# Altium schematic symbol library BTS3405G.SchLib: 1 symbol
Pins are listed as number, name and electrical type; pins without a type are passive.

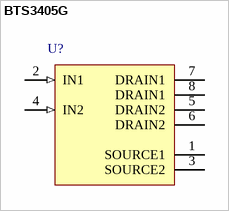
[diagram p0: symbol BTS3405G]

## BTS3405G
designator U?
HITFET Smart Low-Side Power Switch, 42 V VDS, 0.6 A ID, -40 to 150 degC, PG-DSO-8-25, Reel, Green; Manufacturer: Infineon; PartNumber: BTS3405G; Channels: 2; Green: TRUE; ID(nom): 0.35 A; ID(lim) (min): 0.6 A; Ptot (max): 0.78 W; RDS (on)(max): 700 mOhm; ton (max): 38 us; toff (max): 45 us; VDS (max): 42 V; DatasheetVersion: Rev. 1.1; PackageVersion: Nov-07; PackageReference: PG-DSO-8-25; PackageDescription: 8-Pin Plastic (Green) Dual Small Outline Package, 4.9 x 3.9 mm Body, 1.27 mm Pitch; Supplier 1: Digi-Key; Supplier Part Number 1: BTS3405GTR-ND; Supplier 2: Digi-Key; Supplier Part Number 2: BTS3405GCT-ND; Supplier 3: Digi-Key; Supplier Part Number 3: BTS3405GDKR-ND; Supplier 4: Farnell; Supplier Part Number 4: 2215525; Supplier 5: Newark; Supplier Part Number 5: 47W3385; Supplier 6: Mouser; Supplier Part Number 6: 726-BTS3405G; Group: HITFET; Halogen-free: TRUE; Packing: Reel; Mounting Technology: Surface Mount; ComponentLink1Description: Manufacturer URL; ComponentLink1URL: http://www.infineon.com/; ComponentLink2Description: Datasheet; ComponentLink2URL: http://www.infineon.com/dgdl/BTS3405G_DS_11.pdf?folderId=db3a3043163797a6011667aa084c0e01&fileId=db3a30431689f4420116d43d769b0cc0&location=en.Products.Automotive_ICs.Smart_High-_and_Low-Side_Switches.HITFET___TEMPFET__-_Smart_Low-Side_Switches.DATASHEET.BTS3405G_DS_11.pdf; ComponentLink3Description: Package Specification; ComponentLink3URL: http://www.infineon.com/dgdl/BTS3410G_DS_13.pdf?folderId=db3a3043163797a6011667aa084c0e01&fileId=db3a3043271faefd01274d02cd525d4a&location=en.Products.Automotive_ICs.Smart_High-_and_Low-Side_Switches.HITFET___TEMPFET__-_Smart_Low-Side_Switches.DATASHEET.BTS3410G_DS_13.pdf
footprint INF-PG-DSO-8-25_N (SOP, 8-Leads, Body 4.9x3.9mm, Pitch 1.27mm, IPC Medium Density)
footprint INF-PG-DSO-8-25_L (SOP, 8-Leads, Body 4.9x3.9mm, Pitch 1.27mm, IPC High Density)
footprint INF-PG-DSO-8-25_M (SOP, 8-Leads, Body 4.9x3.9mm, Pitch 1.27mm, IPC Low Density)
pins: 1 SOURCE1 (power) "Ground connection for channel 1", 2 IN1 (in) "Input / Fault feedback for channel 1", 3 SOURCE2 (power) "Ground connection for channel 2", 4 IN2 (in) "Input / Fault feedback for channel 2", 5 DRAIN2 (power) "Load connection channel 2", 6 DRAIN2 (power) "Load connection channel 2", 7 DRAIN1 (power) "Load connection channel 1", 8 DRAIN1 (power) "Load connection channel 1"